# Altium footprint library STM.PcbLib: 4 footprints
Each footprint in its own frame and in the unit in brackets; x right, y up, seen from the top. Pads: shape width x height; smd on the part's side, far side on the other; paste and mask are expansions set on the pad; w line width, h text height; cw(c..) or ccw(c..) is an arc to the next point about the centre after c.
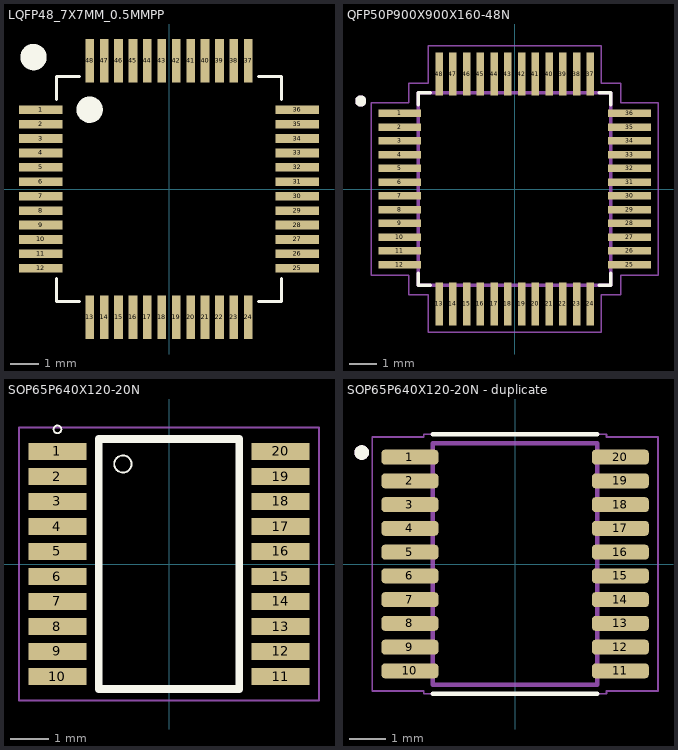
[diagram p0: the footprints below, top view; thin cyan lines are the x and y axes]

## LQFP48_7X7MM_0.5MMPP [mm]
pads (48):
  rect 1.5x0.3 smd: 1(-4.45,2.75) 2(-4.45,2.25) 3(-4.45,1.75) 4(-4.45,1.25) 5(-4.45,0.75) 6(-4.45,0.25) 7(-4.45,-0.25) 8(-4.45,-0.75) 9(-4.45,-1.25) 10(-4.45,-1.75) 11(-4.45,-2.25) 12(-4.45,-2.75) 25(4.45,-2.75) 26(4.45,-2.25) 27(4.45,-1.75) 28(4.45,-1.25) 29(4.45,-0.75) 30(4.45,-0.25) 31(4.45,0.25) 32(4.45,0.75) 33(4.45,1.25) 34(4.45,1.75) 35(4.45,2.25) 36(4.45,2.75)
  rect 0.3x1.5 smd: 13(-2.75,-4.45) 14(-2.25,-4.45) 15(-1.75,-4.45) 16(-1.25,-4.45) 17(-0.75,-4.45) 18(-0.25,-4.45) 19(0.25,-4.45) 20(0.75,-4.45) 21(1.25,-4.45) 22(1.75,-4.45) 23(2.25,-4.45) 24(2.75,-4.45) 37(2.75,4.45) 38(2.25,4.45) 39(1.75,4.45) 40(1.25,4.45) 41(0.75,4.45) 42(0.25,4.45) 43(-0.25,4.45) 44(-0.75,4.45) 45(-1.25,4.45) 46(-1.75,4.45) 47(-2.25,4.45) 48(-2.75,4.45)
Top Overlay:
  circle w0.5: c-4.699,4.572 r0.206
  circle w0.5: c-2.75,2.75 r0.206
  lines w0.1: -3.9,-3.1 -3.9,-3.9 -3.1,-3.9 ; -3.9,3.1 -3.9,3.9 -3.1,3.9 ; 3.1,-3.9 3.9,-3.9 3.9,-3.1 ; 3.1,3.9 3.9,3.9 3.9,3.1
3D body "LQFP48-7x7mm.step": height 1.6, standoff 0, extent -4.497,-4.497 4.497,4.497

## QFP50P900X900X160-48N [mm]
pads (48):
  rrect7% 1.56x0.28 smd: 1(-4.18,2.75) 2(-4.18,2.25) 3(-4.18,1.75) 4(-4.18,1.25) 5(-4.18,0.75) 6(-4.18,0.25) 7(-4.18,-0.25) 8(-4.18,-0.75) 9(-4.18,-1.25) 10(-4.18,-1.75) 11(-4.18,-2.25) 12(-4.18,-2.75) 25(4.18,-2.75) 26(4.18,-2.25) 27(4.18,-1.75) 28(4.18,-1.25) 29(4.18,-0.75) 30(4.18,-0.25) 31(4.18,0.25) 32(4.18,0.75) 33(4.18,1.25) 34(4.18,1.75) 35(4.18,2.25) 36(4.18,2.75)
  rrect7% 0.28x1.56 smd: 13(-2.75,-4.18) 14(-2.25,-4.18) 15(-1.75,-4.18) 16(-1.25,-4.18) 17(-0.75,-4.18) 18(-0.25,-4.18) 19(0.25,-4.18) 20(0.75,-4.18) 21(1.25,-4.18) 22(1.75,-4.18) 23(2.25,-4.18) 24(2.75,-4.18) 37(2.75,4.18) 38(2.25,4.18) 39(1.75,4.18) 40(1.25,4.18) 41(0.75,4.18) 42(0.25,4.18) 43(-0.25,4.18) 44(-0.75,4.18) 45(-1.25,4.18) 46(-1.75,4.18) 47(-2.25,4.18) 48(-2.75,4.18)
Top Overlay:
  circle w0.2: c-5.6,3.2 r0.1
  lines w0.127: -3.5,-3.07 -3.5,-3.5 -3.07,-3.5 ; -3.5,3.07 -3.5,3.5 -3.07,3.5 ; 3.07,-3.5 3.5,-3.5 3.5,-3.07 ; 3.07,3.5 3.5,3.5 3.5,3.07
Mechanical 13:
  circle w0.2: c-5.6,3.2 r0.1
  lines w0: -3.505,0.635 -3.505,0.864
  lines w0.127: -3.5,-3.5 -3.5,3.5 3.5,3.5 3.5,-3.5 -3.5,-3.5
Mechanical 15:
  lines w0.05: -5.21,-3.14 -3.85,-3.14 -3.85,-3.85 -3.14,-3.85 -3.14,-5.21 3.14,-5.21 3.14,-3.85 3.85,-3.85 3.85,-3.14 5.21,-3.14 5.21,3.14 3.85,3.14 3.85,3.85 3.14,3.85 3.14,5.21 -3.14,5.21 -3.14,3.85 -3.85,3.85 -3.85,3.14 -5.21,3.14 -5.21,-3.14

## SOP65P640X120-20N [mm]
pads (20):
  rect 1.5x0.45 smd: 1(-2.9,2.925) 2(-2.9,2.275) 3(-2.9,1.625) 4(-2.9,0.975) 5(-2.9,0.325) 6(-2.9,-0.325) 7(-2.9,-0.975) 8(-2.9,-1.625) 9(-2.9,-2.275) 10(-2.9,-2.925) 11(2.9,-2.925) 12(2.9,-2.275) 13(2.9,-1.625) 14(2.9,-0.975) 15(2.9,-0.325) 16(2.9,0.325) 17(2.9,0.975) 18(2.9,1.625) 19(2.9,2.275) 20(2.9,2.925)
Top Overlay:
  circle w0.05: c-1.2,2.6 r0.224
  circle w0.05: c-1.2,2.6 r0.224
  circle w0.05: c-2.9,3.5 r0.1
  lines w0.2: -1.825,-3.25 1.825,-3.25 1.825,3.25 -1.825,3.25 -1.825,-3.25
Mechanical 15:
  lines w0.05: -3.9,-3.55 3.9,-3.55 3.9,3.55 -3.9,3.55 -3.9,-3.55

## SOP65P640X120-20N - duplicate [mm]
pads (20):
  rrect50% 1.56x0.41 smd: 1(-2.88,2.925) 2(-2.88,2.275) 3(-2.88,1.625) 4(-2.88,0.975) 5(-2.88,0.325) 6(-2.88,-0.325) 7(-2.88,-0.975) 8(-2.88,-1.625) 9(-2.88,-2.275) 10(-2.88,-2.925) 11(2.88,-2.925) 12(2.88,-2.275) 13(2.88,-1.625) 14(2.88,-0.975) 15(2.88,-0.325) 16(2.88,0.325) 17(2.88,0.975) 18(2.88,1.625) 19(2.88,2.275) 20(2.88,2.925)
Top Overlay:
  circle w0.2: c-4.2,3.05 r0.1
  lines w0.127: -2.25,-3.55 2.25,-3.55 ; -2.25,3.55 2.25,3.55
Mechanical 13:
  circle w0.2: c-4.2,3.05 r0.1
  lines w0.127: -2.25,-3.3 -2.25,3.3 2.25,3.3 2.25,-3.3 -2.25,-3.3
Mechanical 15:
  lines w0.05: -3.91,-3.48 -2.5,-3.48 -2.5,-3.55 2.5,-3.55 2.5,-3.48 3.91,-3.48 3.91,3.48 2.5,3.48 2.5,3.55 -2.5,3.55 -2.5,3.48 -3.91,3.48 -3.91,-3.48